# Altium footprint library resistor_smd.PcbLib: 9 footprints
Each footprint in its own frame and in the unit in brackets; x right, y up, seen from the top. Pads: shape width x height; smd on the part's side, far side on the other; paste and mask are expansions set on the pad; w line width, h text height; cw(c..) or ccw(c..) is an arc to the next point about the centre after c.
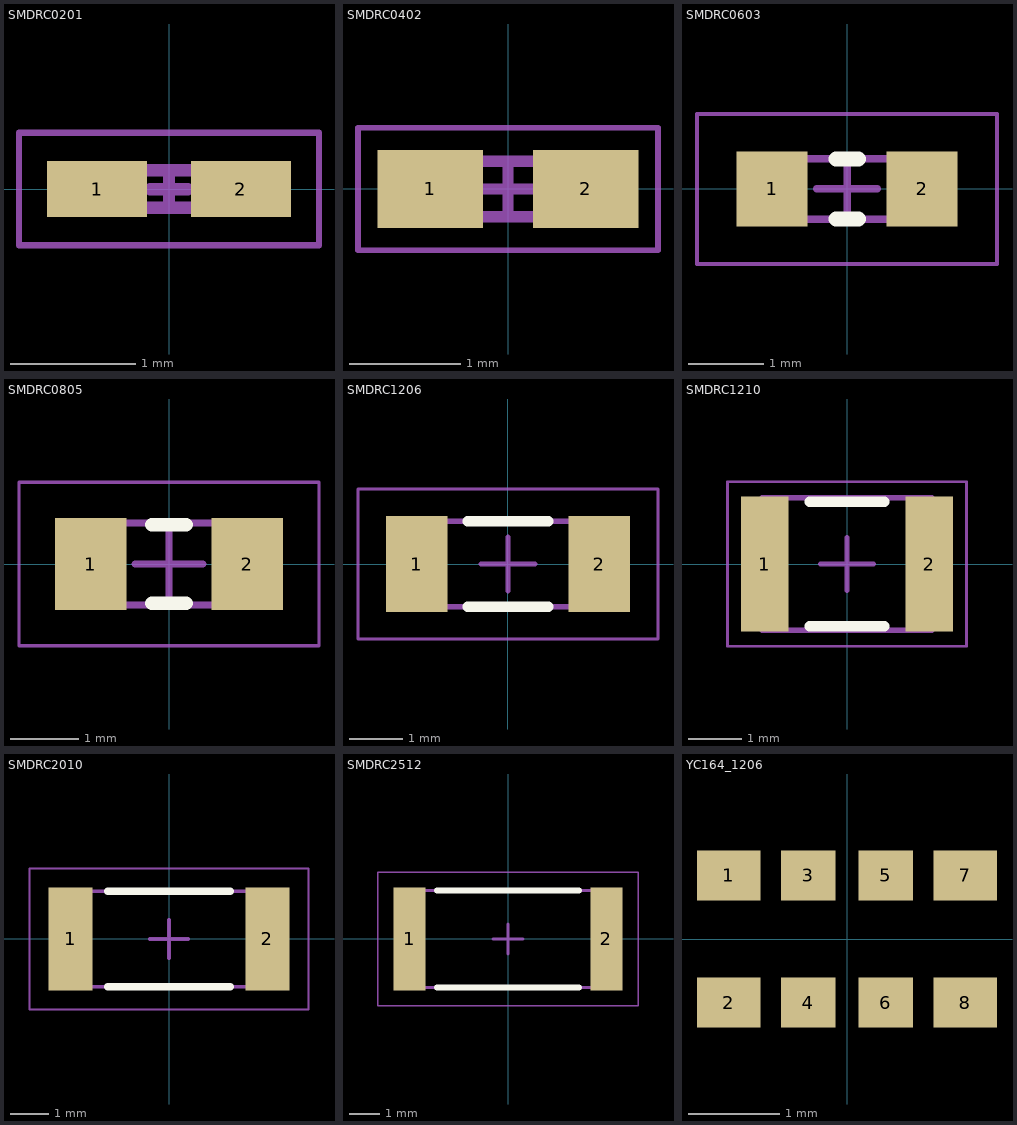
[diagram p0: the footprints below, top view; thin cyan lines are the x and y axes]

## SMDRC0201 [mm] "Chip Resistor, 2-Leads, Body 0,60x0,30mm, IPC Low Density"
height 0.23
pads (2):
  rect 0.8x0.45 smd: 1(-0.575,0) 2(0.575,0)
Mechanical 13:
  lines w0.1: -0.3,-0.15 0.3,-0.15 0.3,0.15 -0.3,0.15 -0.3,-0.15
Mechanical 15:
  lines w0.05: -1.2,-0.45 1.2,-0.45 1.2,0.45 -1.2,0.45 -1.2,-0.45
  lines w0.1: -0.15,0 0.15,0 ; 0,-0.15 0,0.15
3D body: height 0.23, standoff 0, extent 0.17,-0.15 0.3,0.15
3D body: height 0.23, standoff 0, extent -0.3,-0.15 -0.17,0.15
3D body: height 0.23, standoff 0, extent -0.17,-0.15 0.17,0.15

## SMDRC0402 [mm] "Chip Resistor, 2-Leads, Body 1,00x0,50mm, IPC Low Density"
height 0.35
pads (2):
  rect 0.95x0.7 smd: 1(-0.7,0) 2(0.7,0)
Mechanical 13:
  lines w0.1: -0.5,-0.25 -0.5,0.25 0.5,0.25 0.5,-0.25 -0.5,-0.25
Mechanical 15:
  lines w0.05: -1.35,-0.55 -1.35,0.55 1.35,0.55 1.35,-0.55 -1.35,-0.55
  lines w0.1: -0.25,0 0.25,0 ; 0,-0.25 0,0.25
3D body: height 0.35, standoff 0, extent -0.25,-0.25 0.25,0.25
3D body: height 0.35, standoff 0, extent -0.5,-0.25 -0.25,0.25
3D body: height 0.35, standoff 0, extent 0.25,-0.25 0.5,0.25

## SMDRC0603 [mm] "Chip Resistor, 2-Leads, Body 1,60x0,80mm, IPC Low Density"
height 0.45
pads (2):
  rect 0.95x1 smd: 1(-1,0) 2(1,0)
Top Overlay:
  lines w0.2: -0.15,-0.4 0.15,-0.4 ; -0.15,0.4 0.15,0.4
Mechanical 13:
  lines w0.1: -0.8,-0.4 0.8,-0.4 0.8,0.4 -0.8,0.4 -0.8,-0.4
Mechanical 15:
  lines w0.05: -2,-1 2,-1 2,1 -2,1 -2,-1
  lines w0.1: -0.4,0 0.4,0 ; 0,-0.4 0,0.4
3D body: height 0.45, standoff 0, extent 0.5,-0.4 0.8,0.4
3D body: height 0.45, standoff 0, extent -0.8,-0.4 -0.5,0.4
3D body: height 0.45, standoff 0, extent -0.5,-0.4 0.5,0.4

## SMDRC0805 [mm] "Chip Resistor, 2-Leads, Body 2,00x1,20mm, IPC Low Density"
height 0.4
pads (2):
  rect 1.05x1.35 smd: 1(-1.15,0) 2(1.15,0)
Top Overlay:
  lines w0.2: -0.25,-0.575 0.25,-0.575 ; -0.25,0.575 0.25,0.575
Mechanical 13:
  lines w0.1: -1,-0.6 1,-0.6 1,0.6 -1,0.6 -1,-0.6
Mechanical 15:
  lines w0.05: -2.2,-1.2 2.2,-1.2 2.2,1.2 -2.2,1.2 -2.2,-1.2
  lines w0.1: -0.5,0 0.5,0 ; 0,-0.5 0,0.5
3D body: height 0.4, standoff 0, extent 0.6,-0.6 1,0.6
3D body: height 0.4, standoff 0, extent -1,-0.6 -0.6,0.6
3D body: height 0.4, standoff 0, extent -0.6,-0.6 0.6,0.6

## SMDRC1206 [mm] "Chip Resistor, 2-Leads, Body 3,20x1,60mm, IPC Low Density"
height 0.5
pads (2):
  rect 1.15x1.8 smd: 1(-1.7,0) 2(1.7,0)
Top Overlay:
  lines w0.2: -0.75,-0.8 0.75,-0.8 ; -0.75,0.8 0.75,0.8
Mechanical 13:
  lines w0.1: -1.6,-0.8 -1.6,0.8 1.6,0.8 1.6,-0.8 -1.6,-0.8
Mechanical 15:
  lines w0.05: -2.8,-1.4 -2.8,1.4 2.8,1.4 2.8,-1.4 -2.8,-1.4
  lines w0.1: -0.5,0 0.5,0 ; 0,-0.5 0,0.5
3D body: height 0.5, standoff 0, extent -1.1,-0.8 1.1,0.8
3D body: height 0.5, standoff 0, extent -1.6,-0.8 -1.1,0.8
3D body: height 0.5, standoff 0, extent 1.1,-0.8 1.6,0.8

## SMDRC1210 [mm] "Chip Resistor, 2-Leads, Body 3,20x2,50mm, IPC Medium Density"
height 0.55
pads (2):
  rect 0.9x2.55 smd: 1(-1.55,0) 2(1.55,0)
Top Overlay:
  lines w0.2: -0.7,-1.175 0.7,-1.175 ; -0.7,1.175 0.7,1.175
Mechanical 13:
  lines w0.1: -1.6,-1.25 1.6,-1.25 1.6,1.25 -1.6,1.25 -1.6,-1.25
Mechanical 15:
  lines w0.05: -2.25,-1.55 2.25,-1.55 2.25,1.55 -2.25,1.55 -2.25,-1.55
  lines w0.1: -0.5,0 0.5,0 ; 0,-0.5 0,0.5
3D body "SMDRC1210.step": height 0.55, standoff 0, extent -1.6,-1.25 1.6,1.25

## SMDRC2010 [mm] "Chip Resistor, 2-Leads, Body 5,00x2,50mm, IPC Low Density"
height 0.55
pads (2):
  rect 1.15x2.7 smd: 1(-2.575,0) 2(2.575,0)
Top Overlay:
  lines w0.2: -1.6,-1.25 1.6,-1.25 ; -1.6,1.25 1.6,1.25
Mechanical 13:
  lines w0.1: -2.5,-1.25 -2.5,1.25 2.5,1.25 2.5,-1.25 -2.5,-1.25
Mechanical 15:
  lines w0.05: -3.65,-1.85 -3.65,1.85 3.65,1.85 3.65,-1.85 -3.65,-1.85
  lines w0.1: -0.5,0 0.5,0 ; 0,-0.5 0,0.5
3D body: height 0.55, standoff 0, extent -2,-1.25 2,1.25
3D body: height 0.55, standoff 0, extent -2.5,-1.25 -2,1.25
3D body: height 0.55, standoff 0, extent 2,-1.25 2.5,1.25

## SMDRC2512 [mm] "Chip Resistor, 2-Leads, Body 6,35x3,20mm, IPC Low Density"
height 0.55
pads (2):
  rect 1.05x3.4 smd: 1(-3.25,0) 2(3.25,0)
Top Overlay:
  lines w0.2: -2.35,-1.6 2.35,-1.6 ; -2.35,1.6 2.35,1.6
Mechanical 13:
  lines w0.1: -3.175,-1.6 3.175,-1.6 3.175,1.6 -3.175,1.6 -3.175,-1.6
Mechanical 15:
  lines w0.05: -4.3,-2.2 4.3,-2.2 4.3,2.2 -4.3,2.2 -4.3,-2.2
  lines w0.1: -0.5,0 0.5,0 ; 0,-0.5 0,0.5
3D body: height 0.55, standoff 0, extent 2.675,-1.6 3.175,1.6
3D body: height 0.55, standoff 0, extent -3.175,-1.6 -2.675,1.6
3D body: height 0.55, standoff 0, extent -2.675,-1.6 2.675,1.6

## YC164_1206 [mm] "Resistor Array 1206 (4x0603)"
pads (8):
  rect 0.7x0.55 smd: 1(-1.3,0.7) 2(-1.3,-0.7) 7(1.3,0.7) 8(1.3,-0.7)
  rect 0.6x0.55 smd: 3(-0.425,0.7) 4(-0.425,-0.7) 5(0.425,0.7) 6(0.425,-0.7)
3D body "YC164.STEP": height 0.55, standoff 0, extent -1.6,-0.8 1.6,0.8